# Altium integrated library ST Video Camera.IntLib: 1 symbol
Pins are listed as number, name and electrical type; pins without a type are passive.

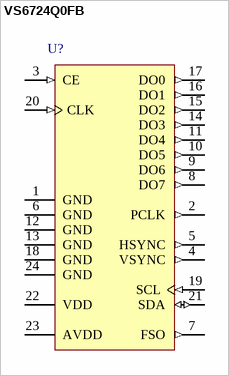
[diagram p0: symbol VS6724Q0FB]

## VS6724Q0FB
designator U?
2 Megapixel single-chip camera module; PCB_Layout: Complies with manufacturer's recommendation.; Published: 30-May-2008; DatasheetVersion: rev1, Jul-2007; PackageVersion: rev1, Jul-2007; PackageReference: 7976351; Publisher: Altium Limited; PackageDescription: 724 Camera Outline, Socket version; Body 8 x 8 mm (LxW); ComponentLink1Description: Manufacturer Link; ComponentLink1URL: http://www.st.com/; ComponentLink2Description: Datasheet; ComponentLink2URL: http://www.st.com/stonline/products/literature/ds/13399/vs6724.pdf
footprint 7976351 (724 Camera Outline, Socket version; Body 8 x 8 mm (LxW))
pins: 1 GND (power), 2 PCLK (out), 3 CE (in), 4 VSYNC (out), 5 HSYNC (out), 6 GND (power), 7 FSO (out), 8 DO7 (out), 9 DO6 (out), 10 DO5 (out), 11 DO4 (out), 12 GND (power), 13 GND (power), 14 DO3 (out), 15 DO2 (out), 16 DO1 (out), 17 DO0 (out), 18 GND (power), 19 SCL (in), 20 CLK (in), 21 SDA (io), 22 VDD (power), 23 AVDD (power), 24 GND (power)